# Altium schematic symbol library SCH - POWER - SWITCHMODE - TI TPS65235RUK.SchLib: 1 symbol
Pins are listed as number, name and electrical type; pins without a type are passive.

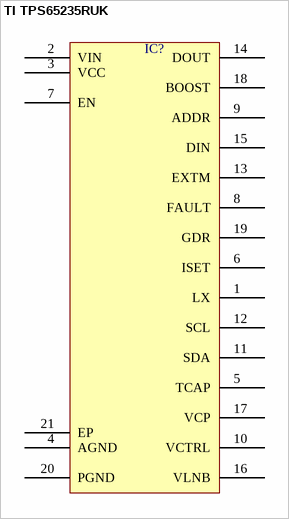
[diagram p0: symbol TI TPS65235RUK]

## TI TPS65235RUK
designator IC?  (value not drawn)
pins: 1 LX, 2 VIN, 3 VCC, 4 AGND, 5 TCAP, 6 ISET, 7 EN, 8 FAULT, 9 ADDR, 10 VCTRL, 11 SDA, 12 SCL, 13 EXTM, 14 DOUT, 15 DIN, 16 VLNB, 17 VCP, 18 BOOST, 19 GDR, 20 PGND, 21 EP